# Altium footprint library IPC-7352 Chip_Inductor_L.PcbLib: 8 footprints
Each footprint in its own frame and in the unit in brackets; x right, y up, seen from the top. Pads: shape width x height; smd on the part's side, far side on the other; paste and mask are expansions set on the pad; w line width, h text height; cw(c..) or ccw(c..) is an arc to the next point about the centre after c.
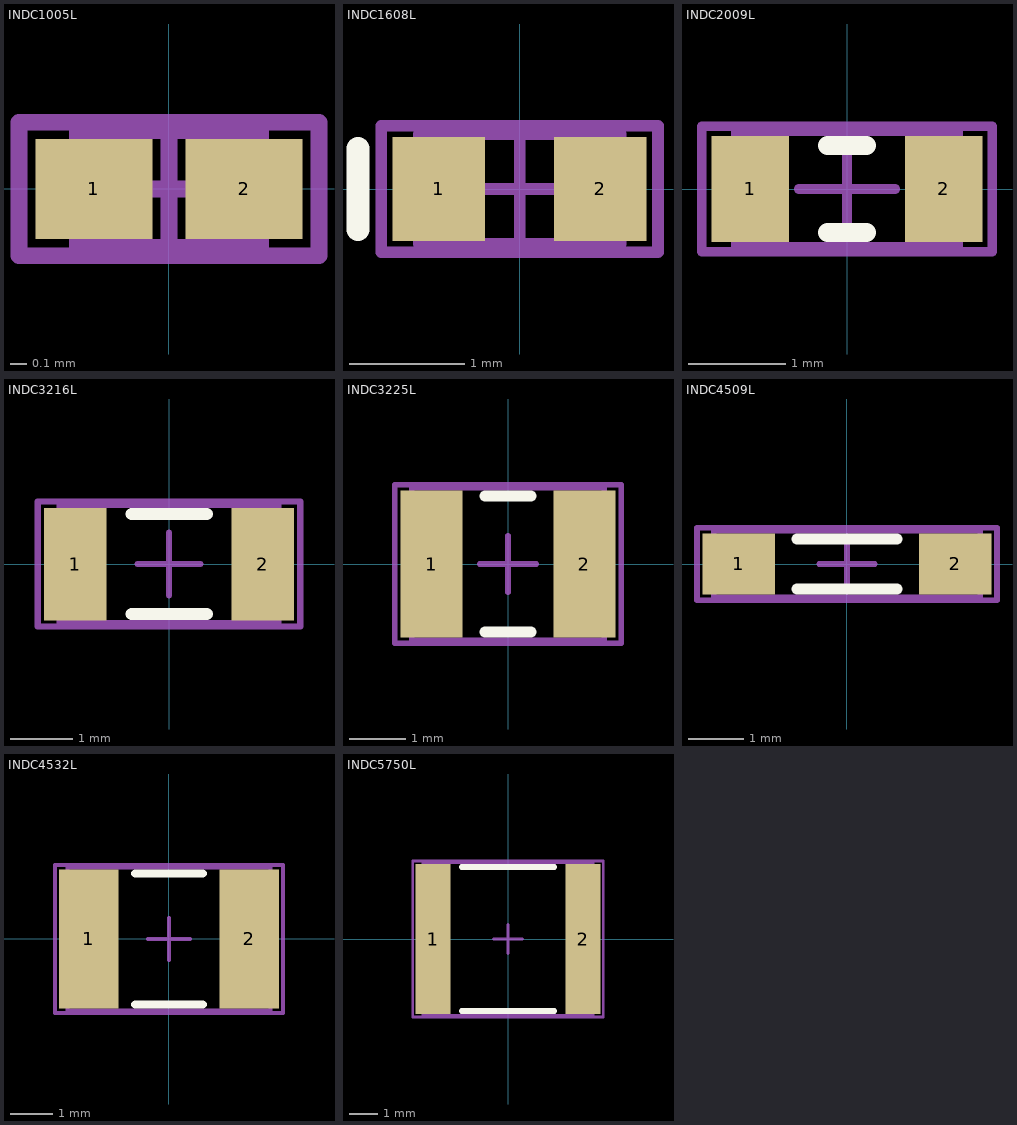
[diagram p0: the footprints below, top view; thin cyan lines are the x and y axes]

## INDC1005L [mm] "Chip Inductor, Body 1.0x0.5mm, IPC High Density"
height 0.6
pads (2):
  rect 0.7x0.6 smd: 1(-0.45,0) 2(0.45,0)
Mechanical 13:
  lines w0.1: -0.55,-0.35 -0.55,0.35 0.55,0.35 0.55,-0.35 -0.55,-0.35
Mechanical 15:
  lines w0.1: -0.35,0 0.35,0 ; 0,-0.35 0,0.35 ; -0.9,-0.4 -0.9,0.4 0.9,0.4 0.9,-0.4 -0.9,-0.4
3D body: height 0.6, standoff 0, extent -0.55,-0.35 0.55,0.35

## INDC1608L [mm] "Chip Inductor, Body 1.6x0.8mm, IPC High Density"
height 0.71
pads (2):
  rect 0.8x0.9 smd: 1(-0.7,0) 2(0.7,0)
Top Overlay:
  lines w0.2: -1.4,-0.35 -1.4,0.35
Mechanical 13:
  lines w0.1: -0.875,-0.475 -0.875,0.475 0.875,0.475 0.875,-0.475 -0.875,-0.475
Mechanical 15:
  lines w0.1: -0.475,0 0.475,0 ; 0,-0.475 0,0.475 ; -1.2,-0.55 -1.2,0.55 1.2,0.55 1.2,-0.55 -1.2,-0.55
3D body: height 0.71, standoff 0, extent -0.875,-0.475 0.875,0.475

## INDC2009L [mm] "Chip Inductor, Body 2.0x0.9mm, IPC High Density"
height 1.2
pads (2):
  rect 0.8x1.1 smd: 1(-1,0) 2(1,0)
Top Overlay:
  lines w0.2: -0.2,-0.45 0.2,-0.45 ; -0.2,0.45 0.2,0.45
Mechanical 13:
  lines w0.1: -1.15,-0.6 -1.15,0.6 1.15,0.6 1.15,-0.6 -1.15,-0.6
Mechanical 15:
  lines w0.1: -0.5,0 0.5,0 ; 0,-0.5 0,0.5 ; -1.5,-0.65 -1.5,0.65 1.5,0.65 1.5,-0.65 -1.5,-0.65
3D body: height 1.2, standoff 0, extent -1.15,-0.6 1.15,0.6

## INDC3216L [mm] "Chip Inductor, Body 3.2x1.6mm, IPC High Density"
height 1.9
pads (2):
  rect 1x1.8 smd: 1(-1.5,0) 2(1.5,0)
Top Overlay:
  lines w0.2: -0.6,-0.8 0.6,-0.8 ; -0.6,0.8 0.6,0.8
Mechanical 13:
  lines w0.1: -1.75,-0.95 1.75,-0.95 1.75,0.95 -1.75,0.95 -1.75,-0.95
Mechanical 15:
  lines w0.1: -0.5,0 0.5,0 ; 0,-0.5 0,0.5 ; -2.1,-1 2.1,-1 2.1,1 -2.1,1 -2.1,-1
3D body: height 1.9, standoff 0, extent -1.75,-0.95 1.75,0.95

## INDC3225L [mm] "Chip Inductor, Body 3.2x2.5mm, IPC High Density"
height 1.5
pads (2):
  rect 1.1x2.6 smd: 1(-1.35,0) 2(1.35,0)
Top Overlay:
  lines w0.2: -0.4,-1.2 0.4,-1.2 ; -0.4,1.2 0.4,1.2
Mechanical 13:
  lines w0.1: -1.7,-1.35 1.7,-1.35 1.7,1.35 -1.7,1.35 -1.7,-1.35
Mechanical 15:
  lines w0.1: -0.5,0 0.5,0 ; 0,-0.5 0,0.5 ; -2,-1.4 2,-1.4 2,1.4 -2,1.4 -2,-1.4
3D body: height 1.5, standoff 0, extent -1.7,-1.35 1.7,1.35

## INDC4509L [mm] "Chip Inductor, Body 4.5x0.9mm, IPC High Density"
height 1.9
pads (2):
  rect 1.3x1.1 smd: 1(-1.95,0) 2(1.95,0)
Top Overlay:
  lines w0.2: -0.9,-0.45 0.9,-0.45 ; -0.9,0.45 0.9,0.45
Mechanical 13:
  lines w0.1: -2.4,-0.6 2.4,-0.6 2.4,0.6 -2.4,0.6 -2.4,-0.6
Mechanical 15:
  lines w0.1: -0.5,0 0.5,0 ; 0,-0.5 0,0.5 ; -2.7,-0.65 2.7,-0.65 2.7,0.65 -2.7,0.65 -2.7,-0.65
3D body: height 1.9, standoff 0, extent -2.4,-0.6 2.4,0.6

## INDC4532L [mm] "Chip Inductor, Body 4.5x3.2mm, IPC High Density"
height 1.35
pads (2):
  rect 1.4x3.3 smd: 1(-1.9,0) 2(1.9,0)
Top Overlay:
  lines w0.2: -0.8,-1.55 0.8,-1.55 ; -0.8,1.55 0.8,1.55
Mechanical 13:
  lines w0.1: -2.4,-1.7 2.4,-1.7 2.4,1.7 -2.4,1.7 -2.4,-1.7
Mechanical 15:
  lines w0.1: -0.5,0 0.5,0 ; 0,-0.5 0,0.5 ; -2.7,-1.75 2.7,-1.75 2.7,1.75 -2.7,1.75 -2.7,-1.75
3D body: height 1.35, standoff 0, extent -2.4,-1.7 2.4,1.7

## INDC5750L [mm] "Chip Inductor, Body 5.7x5.0mm, IPC High Density"
height 1.9
pads (2):
  rect 1.2x5.2 smd: 1(-2.6,0) 2(2.6,0)
Top Overlay:
  lines w0.2: -1.6,-2.5 1.6,-2.5 ; -1.6,2.5 1.6,2.5
Mechanical 13:
  lines w0.1: -2.95,-2.65 2.95,-2.65 2.95,2.65 -2.95,2.65 -2.95,-2.65
Mechanical 15:
  lines w0.1: -0.5,0 0.5,0 ; 0,-0.5 0,0.5 ; -3.3,-2.7 3.3,-2.7 3.3,2.7 -3.3,2.7 -3.3,-2.7
3D body: height 1.9, standoff 0, extent -2.95,-2.65 2.95,2.65